# Altium footprint library Resistors_TH.PcbLib: 20 footprints (part 2 of 2)
Each footprint in its own frame and in the unit in brackets; x right, y up, seen from the top. Pads: shape width x height; smd on the part's side, far side on the other; paste and mask are expansions set on the pad; w line width, h text height; cw(c..) or ccw(c..) is an arc to the next point about the centre after c.
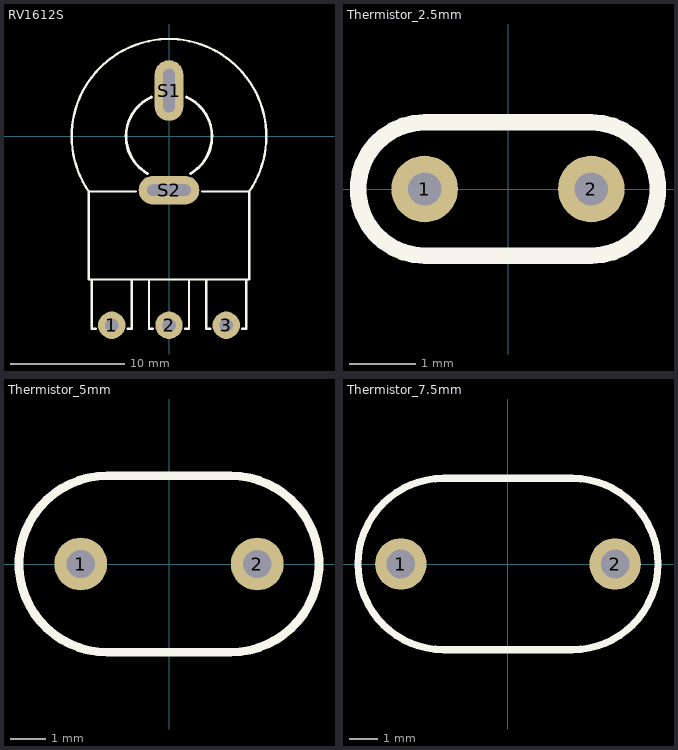
[diagram p1: the footprints below, top view; thin cyan lines are the x and y axes]

## RV1612S [mm] "16mm Single Gang PCB Mount 90° Short Pin Rotary Potentiometer With Switch"
height 26.5
pads (5):
  round 2.4 hole 1.2: 1(-5,-16.5) 2(0,-16.5) 3(5,-16.5)
  oval 2.5x5.3 hole 1 slot 3.8 at 90 deg: S1(0,4)
  oval 5.3x2.5 hole 1 slot 3.8 at 0 deg: S2(0,-4.7)
Top Overlay:
  lines w0.2: -6.75,-12.5 -6.75,-16.8 -6.4,-16.8 ; -3.6,-16.8 -3.25,-16.8 -3.25,-12.5 ; -2.9,-4.822 -7,-4.822 ; -1.75,-12.5 -1.75,-16.8 -1.4,-16.8 ; 1.4,-16.8 1.75,-16.8 1.75,-12.5 ; 2.9,-4.822 7,-4.822 ; 3.25,-12.5 3.25,-16.8 3.6,-16.8 ; 6.4,-16.8 6.75,-16.8 6.75,-12.5 ; -7,-4.822 cw(c0,0) 7,-4.822 ; -7,-4.822 -7,-12.5 7,-12.5 7,-4.822
  lines w0.25: -1.871,-3.25 cw(c0,0) -1.514,3.431 ; 1.514,3.431 cw(c0,0) 1.871,-3.25
3D body "Pot_S16_90_With_Switch.STEP": height 26.5, standoff -3.5, extent -8.597,-16.75 8.597,8.6

## Thermistor_2.5mm [mm] "Площадка под термистор, шаг 2.5мм"
height 10
pads (2):
  round 1 hole 0.5: 1(-1.25,0) 2(1.25,0)
Top Overlay:
  lines w0.25: -1.25,-1 cw(c-1.25,0) -1.25,1 1.25,1 cw(c1.25,0) 1.25,-1 -1.25,-1

## Thermistor_5mm [mm] "Площадка под термистор, шаг 5мм"
height 10
pads (2):
  round 1.5 hole 0.8: 1(-2.5,0) 2(2.5,0)
Top Overlay:
  lines w0.25: -1.75,-2.5 cw(c-1.75,0) -1.75,2.5 1.75,2.5 cw(c1.75,0) 1.75,-2.5 -1.75,-2.5
3D body "User Library-Disc_CAP d6x3_5_5mm.STEP": height 8.1, standoff -2.02, extent -3,-1.05 3,1.05

## Thermistor_7.5mm [mm]
pads (2):
  round 1.8 hole 1: 1(-3.75,0) 2(3.75,0)
Top Overlay:
  lines w0.25: -2.25,-3 cw(c-2.25,0) -2.25,3 2.25,3 cw(c2.25,0) 2.25,-3 -2.25,-3
3D body "S10K471.STEP": height 12.5, standoff -2.5, extent -5.274,-2.907 5.269,2.768